# Altium footprint library BBB Headers.PcbLib: 1 footprints
Each footprint in its own frame and in the unit in brackets; x right, y up, seen from the top. Pads: shape width x height; smd on the part's side, far side on the other; paste and mask are expansions set on the pad; w line width, h text height; cw(c..) or ccw(c..) is an arc to the next point about the centre after c.
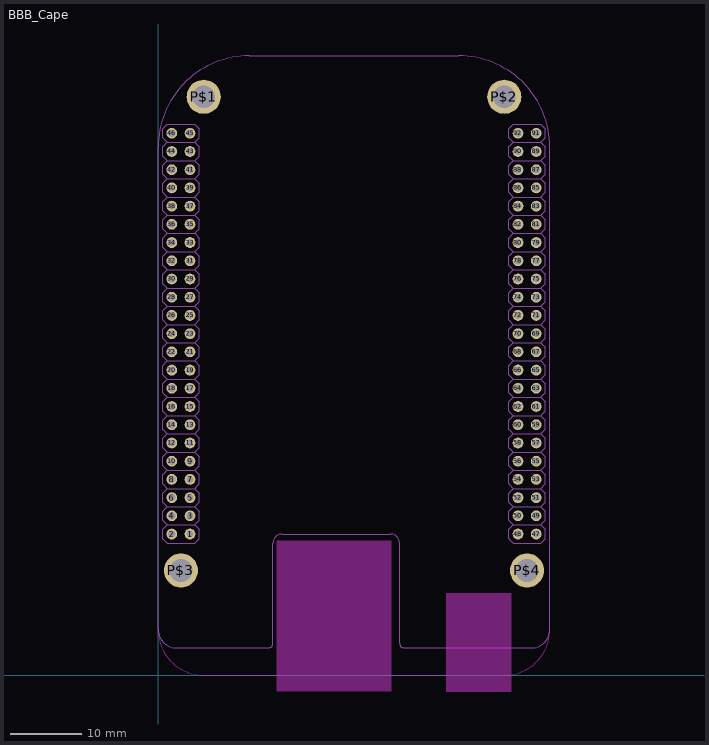
[diagram p0: the footprint, top view; thin cyan lines are the x and y axes]

## BBB_Cape [mm]
pads (96):
  round 1.5 hole 1: 1(4.445,19.685) 2(1.905,19.685) 3(4.445,22.225) 4(1.905,22.225) 5(4.445,24.765) 6(1.905,24.765) 7(4.445,27.305) 8(1.905,27.305) 9(4.445,29.845) 10(1.905,29.845) 11(4.445,32.385) 12(1.905,32.385) 13(4.445,34.925) 14(1.905,34.925) 15(4.445,37.465) 16(1.905,37.465) 17(4.445,40.005) 18(1.905,40.005) 19(4.445,42.545) 20(1.905,42.545) 21(4.445,45.085) 22(1.905,45.085) 23(4.445,47.625) 24(1.905,47.625) 25(4.445,50.165) 26(1.905,50.165) 27(4.445,52.705) 28(1.905,52.705) 29(4.445,55.245) 30(1.905,55.245) 31(4.445,57.785) 32(1.905,57.785) 33(4.445,60.325) 34(1.905,60.325) 35(4.445,62.865) 36(1.905,62.865) 37(4.445,65.405) 38(1.905,65.405) 39(4.445,67.945) 40(1.905,67.945) 41(4.445,70.485) 42(1.905,70.485) 43(4.445,73.025) 44(1.905,73.025) 45(4.445,75.565) 46(1.905,75.565) 47(52.705,19.685) 48(50.165,19.685) 49(52.705,22.225) 50(50.165,22.225) 51(52.705,24.765) 52(50.165,24.765) 53(52.705,27.305) 54(50.165,27.305) 55(52.705,29.845) 56(50.165,29.845) 57(52.705,32.385) 58(50.165,32.385) 59(52.705,34.925) 60(50.165,34.925) 61(52.705,37.465) 62(50.165,37.465) 63(52.705,40.005) 64(50.165,40.005) 65(52.705,42.545) 66(50.165,42.545) 67(52.705,45.085) 68(50.165,45.085) 69(52.705,47.625) 70(50.165,47.625) 71(52.705,50.165) 72(50.165,50.165) 73(52.705,52.705) 74(50.165,52.705) 75(52.705,55.245) 76(50.165,55.245) 77(52.705,57.785) 78(50.165,57.785) 79(52.705,60.325) 80(50.165,60.325) 81(52.705,62.865) 82(50.165,62.865) 83(52.705,65.405) 84(50.165,65.405) 85(52.705,67.945) 86(50.165,67.945) 87(52.705,70.485) 88(50.165,70.485) 89(52.705,73.025) 90(50.165,73.025) 91(52.705,75.565) 92(50.165,75.565)
  round 4.763 hole 3.175: P$1(6.35,80.645) P$2(48.26,80.645) P$3(3.175,14.605) P$4(51.435,14.605)
Keep-Out Layer:
  rectangle: 40.132,-2.362 49.276,11.455
  rectangle: 16.51,-2.286 32.512,18.796
  lines w0.127: 0,6.35 ccw(c6.35,6.35) 6.35,0 48.26,0 ccw(c48.26,6.35) 54.61,6.35
Mechanical 1:
  lines w0.127: 0,6.35 ccw(c2.54,6.35) 2.54,3.81 15.367,3.81 ccw(c15.367,4.445) 16.002,4.445 16.002,18.415 cw(c17.272,18.415) 17.272,19.685 32.385,19.685 cw(c32.385,18.415) 33.655,18.415 33.655,4.445 ccw(c34.29,4.445) 34.29,3.81 52.07,3.81 ccw(c52.07,6.35) 54.61,6.35 54.61,73.66 ccw(c41.91,73.66) 41.91,86.36 12.7,86.36 ccw(c12.7,73.66) 0,73.66 0,6.35
Mechanical 2:
  drawing of 324 lines, arcs and shapes, not listed
Mechanical 18:
  region: 4.699,19.431 4.699,19.939 4.191,19.939 4.191,19.431
  region: 2.159,19.431 2.159,19.939 1.651,19.939 1.651,19.431
  region: 2.159,21.971 2.159,22.479 1.651,22.479 1.651,21.971
  region: 4.699,21.971 4.699,22.479 4.191,22.479 4.191,21.971
  region: 2.159,24.511 2.159,25.019 1.651,25.019 1.651,24.511
  region: 4.699,24.511 4.699,25.019 4.191,25.019 4.191,24.511
  region: 2.159,27.051 2.159,27.559 1.651,27.559 1.651,27.051
  region: 2.159,29.591 2.159,30.099 1.651,30.099 1.651,29.591
  region: 2.159,32.131 2.159,32.639 1.651,32.639 1.651,32.131
  region: 4.699,27.051 4.699,27.559 4.191,27.559 4.191,27.051
  region: 4.699,29.591 4.699,30.099 4.191,30.099 4.191,29.591
  region: 4.699,32.131 4.699,32.639 4.191,32.639 4.191,32.131
  region: 2.159,34.671 2.159,35.179 1.651,35.179 1.651,34.671
  region: 4.699,34.671 4.699,35.179 4.191,35.179 4.191,34.671
  region: 2.159,37.211 2.159,37.719 1.651,37.719 1.651,37.211
  region: 4.699,37.211 4.699,37.719 4.191,37.719 4.191,37.211
  region: 2.159,39.751 2.159,40.259 1.651,40.259 1.651,39.751
  region: 4.699,39.751 4.699,40.259 4.191,40.259 4.191,39.751
  region: 2.159,42.291 2.159,42.799 1.651,42.799 1.651,42.291
  region: 4.699,42.291 4.699,42.799 4.191,42.799 4.191,42.291
  region: 2.159,44.831 2.159,45.339 1.651,45.339 1.651,44.831
  region: 4.699,44.831 4.699,45.339 4.191,45.339 4.191,44.831
  region: 2.159,47.371 2.159,47.879 1.651,47.879 1.651,47.371
  region: 4.699,47.371 4.699,47.879 4.191,47.879 4.191,47.371
  region: 2.159,49.911 2.159,50.419 1.651,50.419 1.651,49.911
  region: 4.699,49.911 4.699,50.419 4.191,50.419 4.191,49.911
  region: 2.159,52.451 2.159,52.959 1.651,52.959 1.651,52.451
  region: 4.699,52.451 4.699,52.959 4.191,52.959 4.191,52.451
  region: 2.159,54.991 2.159,55.499 1.651,55.499 1.651,54.991
  region: 4.699,54.991 4.699,55.499 4.191,55.499 4.191,54.991
  region: 2.159,57.531 2.159,58.039 1.651,58.039 1.651,57.531
  region: 4.699,57.531 4.699,58.039 4.191,58.039 4.191,57.531
  region: 2.159,60.071 2.159,60.579 1.651,60.579 1.651,60.071
  region: 4.699,60.071 4.699,60.579 4.191,60.579 4.191,60.071
  region: 2.159,62.611 2.159,63.119 1.651,63.119 1.651,62.611
  region: 4.699,62.611 4.699,63.119 4.191,63.119 4.191,62.611
  region: 2.159,65.151 2.159,65.659 1.651,65.659 1.651,65.151
  region: 4.699,65.151 4.699,65.659 4.191,65.659 4.191,65.151
  region: 2.159,67.691 2.159,68.199 1.651,68.199 1.651,67.691
  region: 4.699,67.691 4.699,68.199 4.191,68.199 4.191,67.691
  region: 2.159,70.231 2.159,70.739 1.651,70.739 1.651,70.231
  region: 4.699,70.231 4.699,70.739 4.191,70.739 4.191,70.231
  region: 2.159,72.771 2.159,73.279 1.651,73.279 1.651,72.771
  region: 4.699,72.771 4.699,73.279 4.191,73.279 4.191,72.771
  region: 2.159,75.311 2.159,75.819 1.651,75.819 1.651,75.311
  region: 4.699,75.311 4.699,75.819 4.191,75.819 4.191,75.311
  region: 52.959,19.431 52.959,19.939 52.451,19.939 52.451,19.431
  region: 50.419,19.431 50.419,19.939 49.911,19.939 49.911,19.431
  region: 50.419,21.971 50.419,22.479 49.911,22.479 49.911,21.971
  region: 52.959,21.971 52.959,22.479 52.451,22.479 52.451,21.971
  region: 50.419,24.511 50.419,25.019 49.911,25.019 49.911,24.511
  region: 52.959,24.511 52.959,25.019 52.451,25.019 52.451,24.511
  region: 50.419,27.051 50.419,27.559 49.911,27.559 49.911,27.051
  region: 50.419,29.591 50.419,30.099 49.911,30.099 49.911,29.591
  region: 50.419,32.131 50.419,32.639 49.911,32.639 49.911,32.131
  region: 52.959,27.051 52.959,27.559 52.451,27.559 52.451,27.051
  region: 52.959,29.591 52.959,30.099 52.451,30.099 52.451,29.591
  region: 52.959,32.131 52.959,32.639 52.451,32.639 52.451,32.131
  region: 50.419,34.671 50.419,35.179 49.911,35.179 49.911,34.671
  region: 52.959,34.671 52.959,35.179 52.451,35.179 52.451,34.671
  region: 50.419,37.211 50.419,37.719 49.911,37.719 49.911,37.211
  region: 52.959,37.211 52.959,37.719 52.451,37.719 52.451,37.211
  region: 50.419,39.751 50.419,40.259 49.911,40.259 49.911,39.751
  region: 52.959,39.751 52.959,40.259 52.451,40.259 52.451,39.751
  region: 50.419,42.291 50.419,42.799 49.911,42.799 49.911,42.291
  region: 52.959,42.291 52.959,42.799 52.451,42.799 52.451,42.291
  region: 50.419,44.831 50.419,45.339 49.911,45.339 49.911,44.831
  region: 52.959,44.831 52.959,45.339 52.451,45.339 52.451,44.831
  region: 50.419,47.371 50.419,47.879 49.911,47.879 49.911,47.371
  region: 52.959,47.371 52.959,47.879 52.451,47.879 52.451,47.371
  region: 50.419,49.911 50.419,50.419 49.911,50.419 49.911,49.911
  region: 52.959,49.911 52.959,50.419 52.451,50.419 52.451,49.911
  region: 50.419,52.451 50.419,52.959 49.911,52.959 49.911,52.451
  region: 52.959,52.451 52.959,52.959 52.451,52.959 52.451,52.451
  region: 50.419,54.991 50.419,55.499 49.911,55.499 49.911,54.991
  region: 52.959,54.991 52.959,55.499 52.451,55.499 52.451,54.991
  region: 50.419,57.531 50.419,58.039 49.911,58.039 49.911,57.531
  region: 52.959,57.531 52.959,58.039 52.451,58.039 52.451,57.531
  region: 50.419,60.071 50.419,60.579 49.911,60.579 49.911,60.071
  region: 52.959,60.071 52.959,60.579 52.451,60.579 52.451,60.071
  region: 50.419,62.611 50.419,63.119 49.911,63.119 49.911,62.611
  region: 52.959,62.611 52.959,63.119 52.451,63.119 52.451,62.611
  region: 50.419,65.151 50.419,65.659 49.911,65.659 49.911,65.151
  region: 52.959,65.151 52.959,65.659 52.451,65.659 52.451,65.151
  region: 50.419,67.691 50.419,68.199 49.911,68.199 49.911,67.691
  region: 52.959,67.691 52.959,68.199 52.451,68.199 52.451,67.691
  region: 50.419,70.231 50.419,70.739 49.911,70.739 49.911,70.231
  region: 52.959,70.231 52.959,70.739 52.451,70.739 52.451,70.231
  region: 50.419,72.771 50.419,73.279 49.911,73.279 49.911,72.771
  region: 52.959,72.771 52.959,73.279 52.451,73.279 52.451,72.771
  region: 50.419,75.311 50.419,75.819 49.911,75.819 49.911,75.311
  region: 52.959,75.311 52.959,75.819 52.451,75.819 52.451,75.311